# Altium schematic symbol library HF32FA.SchLib: 1 symbol
Pins are listed as number, name and electrical type; pins without a type are passive.

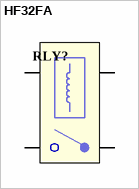
[diagram p0: symbol HF32FA]

## HF32FA
designator RLY?
pins: 1, 2, A1, A2